# Altium schematic symbol library Cap.SchLib: 186 symbols
Pins are listed as number, name and electrical type; pins without a type are passive.

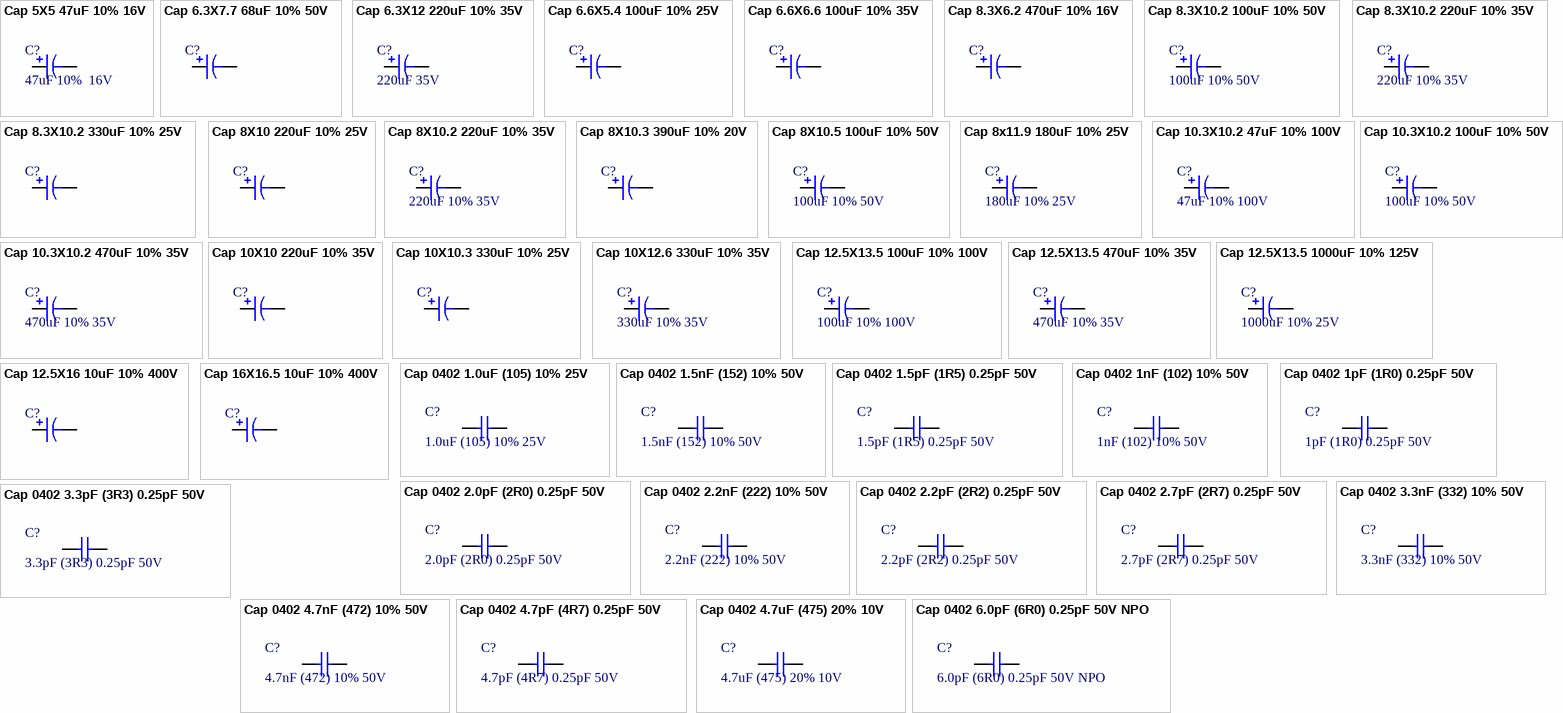
[diagram p0: symbols Cap 5X5 47uF 10% 16V to Cap 0402 6.0pF (6R0) 0.25pF 50V NPO]

## Cap 5X5 47uF 10% 16V
designator C?, comment 47uF 10%  16V
贴片电解电容
footprint CAP SMT 5X5
pins: 1, 2

## Cap 6.3X7.7 68uF 10% 50V
designator C?
贴片电解电容
footprint CAP SMT6.3X7.7
pins: 1, 2

## Cap 6.3X12 220uF 10% 35V
designator C?, comment 220uF 35V
直插固态电解电容
footprint CAP STR 6.3x12 (6.5mm(Dia.) x 12mm(Length) 2.5mm(Lead Spacing))
pins: 1, 2

## Cap 6.6X5.4 100uF 10% 25V
designator C?
贴片电解电容
footprint CAP SMT 6.6X5.4 (Capacitor, Aluminium Electrolytric, 6.6mm L X 6.6mm W X 5.4mm H, IPC Medium Density)
pins: 1, 2

## Cap 6.6X6.6 100uF 10% 35V
designator C?
贴片电解电容
footprint CAP SMT 6.6X6.6 (SMDC)
pins: 1, 2

## Cap 8.3X6.2 470uF 10% 16V
designator C?
贴片电解电容
footprint CAP SMT 8.3X6.2 (Capacitor, Aluminium Electrolytric, 8.3mm L X 8.3mm W X 6.2mm H, IPC Medium Density)
pins: 1, 2

## Cap 8.3X10.2 100uF 10% 50V
designator C?, comment 100uF 10% 50V
贴片电解电容
footprint CAP SMT 8.3X10.2 (Capacitor, Aluminium Electrolytric, 8.3mm L X 8.3mm W X 10.2mm H, IPC Medium Density)
pins: 1, 2

## Cap 8.3X10.2 220uF 10% 35V
designator C?, comment 220uF 10% 35V
贴片电解电容
footprint CAP SMT 8.3X10.2 (Capacitor, Aluminium Electrolytric, 8.3mm L X 8.3mm W X 10.2mm H, IPC Medium Density)
pins: 1, 2

## Cap 8.3X10.2 330uF 10% 25V
designator C?
贴片电解电容
footprint CAP SMT 8.3X10.2 (Capacitor, Aluminium Electrolytric, 8.3mm L X 8.3mm W X 10.2mm H, IPC Medium Density)
pins: 1, 2

## Cap 8X10 220uF 10% 25V
designator C?
贴片电解电容
footprint CAP SMT 8X10
pins: 1, 2

## Cap 8X10.2 220uF 10% 35V
designator C?, comment 220uF 10% 35V
贴片电解电容
footprint CAP SMT 8X10.5
pins: 1, 2

## Cap 8X10.3 390uF 10% 20V
designator C?
贴片电解电容
footprint CAP SMT 8X10.3
pins: 1, 2

## Cap 8X10.5 100uF 10% 50V
designator C?, comment 100uF 10% 50V
贴片电解电容
footprint CAP SMT 8X10.5
pins: 1, 2

## Cap 8x11.9 180uF 10% 25V
designator C?, comment 180uF 10% 25V
贴片电解电容
footprint CAP SMT 8X10.5
pins: 1, 2

## Cap 10.3X10.2 47uF 10% 100V
designator C?, comment 47uF 10% 100V
贴片电解电容
footprint CAP SMT 10.3X10.2 (Capacitor, Aluminium Electrolytric, 10.3mm L X 10.3mm W X 10.2mm H, IPC Medium Density)
pins: 1, 2

## Cap 10.3X10.2 100uF 10% 50V
designator C?, comment 100uF 10% 50V
贴片电解电容
footprint CAP SMT 10.3X10.2 (Capacitor, Aluminium Electrolytric, 10.3mm L X 10.3mm W X 10.2mm H, IPC Medium Density)
pins: 1, 2

## Cap 10.3X10.2 470uF 10% 35V
designator C?, comment 470uF 10% 35V
贴片电解电容
footprint CAP SMT 10.3X10.2 (Capacitor, Aluminium Electrolytric, 10.3mm L X 10.3mm W X 10.2mm H, IPC Medium Density)
pins: 1, 2

## Cap 10X10 220uF 10% 35V
designator C?
贴片电解电容
footprint CAP SMT 10X10
pins: 1, 2

## Cap 10X10.3 330uF 10% 25V
designator C?
贴片电解电容
footprint CAP SMT 10X10.3
pins: 1, 2

## Cap 10X12.6 330uF 10% 35V
designator C?, comment 330uF 10% 35V
贴片固态电解电容
footprint CAP SMT 10X12.6
pins: 1, 2

## Cap 12.5X13.5 100uF 10% 100V
designator C?, comment 100uF 10% 100V
贴片电解电容
footprint CAP SMT 12.5X13.5
pins: 1, 2

## Cap 12.5X13.5 470uF 10% 35V
designator C?, comment 470uF 10% 35V
贴片电解电容
footprint CAP SMT 12.5X13.5
pins: 1, 2

## Cap 12.5X13.5 1000uF 10% 125V
designator C?, comment 1000uF 10% 25V
贴片电解电容
footprint CAP SMT 12.5X13.5
pins: 1, 2

## Cap 12.5X16 10uF 10% 400V
designator C?
贴片电解电容
footprint CAP SMT 12.5X16
pins: 1, 2

## Cap 16X16.5 10uF 10% 400V
designator C?
贴片电解电容
footprint CAP SMT 16X16.5
pins: 1, 2

## Cap 0402 1.0uF (105) 10% 25V
designator C?, comment 1.0uF (105) 10% 25V
贴片电容; ComponentLink1Description: 供应商链接; ComponentLink1URL: http://www.szlcsc.com/product/details_53938.html; Package: 0402; Supplier: LC; SuppliersPartNumber: C52923
footprint 0402_C
pins: 1, 2

## Cap 0402 1.5nF (152) 10% 50V
designator C?, comment 1.5nF (152) 10% 50V
贴片电容; ComponentLink1Description: 供应商链接; ComponentLink1URL: http://www.szlcsc.com/product/details_24707.html; Package: 0402; Supplier: LC; SuppliersPartNumber: C23967
footprint 0402_C
pins: 1, 2

## Cap 0402 1.5pF (1R5) 0.25pF 50V
designator C?, comment 1.5pF (1R5) 0.25pF 50V
贴片电容; ComponentLink1Description: 供应商链接; ComponentLink1URL: http://www.szlcsc.com/product/details_1904.html; Package: 0402; Supplier: LC; SuppliersPartNumber: C1552
footprint 0402_C
pins: 1, 2

## Cap 0402 1nF (102) 10% 50V
designator C?, comment 1nF (102) 10% 50V
贴片电容; ComponentLink1Description: 供应商链接; ComponentLink1URL: http://www.szlcsc.com/product/details_1875.html; Package: 0402; Supplier: LC; SuppliersPartNumber: C1523
footprint 0402_C
pins: 1, 2

## Cap 0402 1pF (1R0) 0.25pF 50V
designator C?, comment 1pF (1R0) 0.25pF 50V
贴片电容; ComponentLink1Description: 供应商链接; ComponentLink1URL: http://www.szlcsc.com/product/details_1902.html; Package: 0402; Supplier: LC; SuppliersPartNumber: C1550
footprint 0402_C
pins: 1, 2

## Cap 0402 2.0pF (2R0) 0.25pF 50V
designator C?, comment 2.0pF (2R0) 0.25pF 50V
贴片电容; ComponentLink1Description: 供应商链接; ComponentLink1URL: http://www.szlcsc.com/product/details_1910.html; Package: 0402; Supplier: LC; SuppliersPartNumber: C1558
footprint 0402_C
pins: 1, 2

## Cap 0402 2.2nF (222) 10% 50V
designator C?, comment 2.2nF (222) 10% 50V
贴片电容; ComponentLink1Description: 供应商链接; ComponentLink1URL: http://www.szlcsc.com/product/details_1883.html; Package: 0402; Supplier: LC; SuppliersPartNumber: C1531
footprint 0402_C
pins: 1, 2

## Cap 0402 2.2pF (2R2) 0.25pF 50V
designator C?, comment 2.2pF (2R2) 0.25pF 50V
贴片电容; ComponentLink1Description: 供应商链接; ComponentLink1URL: http://www.szlcsc.com/product/details_1911.html; Package: 0402; Supplier: LC; SuppliersPartNumber: C1559
footprint 0402_C
pins: 1, 2

## Cap 0402 2.7pF (2R7) 0.25pF 50V
designator C?, comment 2.7pF (2R7) 0.25pF 50V
贴片电容; ComponentLink1Description: 供应商链接; ComponentLink1URL: http://www.szlcsc.com/product/details_1913.html; Package: 0402; Supplier: LC; SuppliersPartNumber: C1561
footprint 0402_C
pins: 1, 2

## Cap 0402 3.3nF (332) 10% 50V
designator C?, comment 3.3nF (332) 10% 50V
贴片电容; ComponentLink1Description: 供应商链接; ComponentLink1URL: http://www.szlcsc.com/product/details_27148.html; Package: 0402; Supplier: LC; SuppliersPartNumber: C26404
footprint 0402_C
pins: 1, 2

## Cap 0402 3.3pF (3R3) 0.25pF 50V
designator C?, comment 3.3pF (3R3) 0.25pF 50V
贴片电容; ComponentLink1Description: 供应商链接; ComponentLink1URL: http://www.szlcsc.com/product/details_1917.html; Package: 0402; Supplier: LC; SuppliersPartNumber: C1565
footprint 0402_C
pins: 1, 2

## Cap 0402 4.7nF (472) 10% 50V
designator C?, comment 4.7nF (472) 10% 50V
贴片电容; ComponentLink1Description: 供应商链接; ComponentLink1URL: http://www.szlcsc.com/product/details_1890.html; Package: 0402; Supplier: LC; SuppliersPartNumber: C1538
footprint 0402_C
pins: 1, 2

## Cap 0402 4.7pF (4R7) 0.25pF 50V
designator C?, comment 4.7pF (4R7) 0.25pF 50V
贴片电容; ComponentLink1Description: 供应商链接; ComponentLink1URL: http://www.szlcsc.com/product/details_1921.html; Package: 0402; Supplier: LC; SuppliersPartNumber: C1569
footprint 0402_C
pins: 1, 2

## Cap 0402 4.7uF (475) 20% 10V
designator C?, comment 4.7uF (475) 20% 10V
贴片电容; ComponentLink1Description: 供应商链接; ComponentLink1URL: http://www.szlcsc.com/product/details_24469.html; Package: 0402; Supplier: LC; SuppliersPartNumber: C23733
footprint 0402_C
pins: 1, 2

## Cap 0402 6.0pF (6R0) 0.25pF 50V NPO
designator C?, comment 6.0pF (6R0) 0.25pF 50V NPO
贴片电容; ComponentLink1Description: 供应商链接; ComponentLink1URL: http://www.szlcsc.com/product/details_31031.html; Package: 0402; Supplier: LC; SuppliersPartNumber: C30274
footprint 0402_C
pins: 1, 2

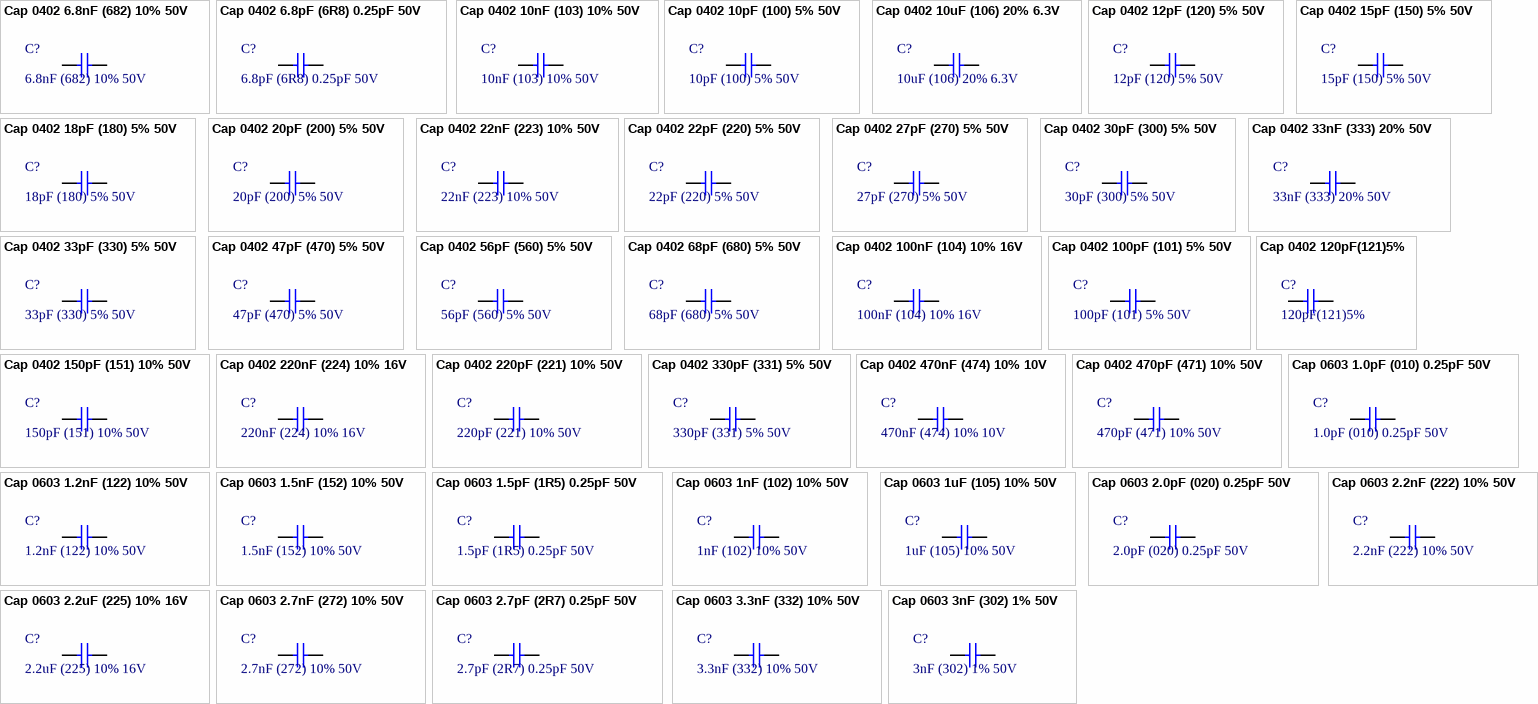
[diagram p1: symbols Cap 0402 6.8nF (682) 10% 50V to Cap 0603 3nF (302) 1% 50V]

## Cap 0402 6.8nF (682) 10% 50V
designator C?, comment 6.8nF (682) 10% 50V
贴片电容; ComponentLink1Description: 供应商链接; ComponentLink1URL: http://www.szlcsc.com/product/details_1894.html; Package: 0402; Supplier: LC; SuppliersPartNumber: C1542
footprint 0402_C
pins: 1, 2

## Cap 0402 6.8pF (6R8) 0.25pF 50V
designator C?, comment 6.8pF (6R8) 0.25pF 50V
贴片电容; ComponentLink1Description: 供应商链接; ComponentLink1URL: http://www.szlcsc.com/product/details_1928.html; Package: 0402; Supplier: LC; SuppliersPartNumber: C1576
footprint 0402_C
pins: 1, 2

## Cap 0402 10nF (103) 10% 50V
designator C?, comment 10nF (103) 10% 50V
贴片电容; ComponentLink1Description: 供应商链接; ComponentLink1URL: http://www.szlcsc.com/product/details_15869.html; Package: 0402; Supplier: LC; SuppliersPartNumber: C15195
footprint 0402_C
pins: 1, 2

## Cap 0402 10pF (100) 5% 50V
designator C?, comment 10pF (100) 5% 50V
贴片电容; ComponentLink1Description: 供应商链接; ComponentLink1URL: http://www.szlcsc.com/product/details_33914.html; Package: 0402; Supplier: LC; SuppliersPartNumber: C32949
footprint 0402_C
pins: 1, 2

## Cap 0402 10uF (106) 20% 6.3V
designator C?, comment 10uF (106) 20% 6.3V
贴片电容; ComponentLink1Description: 供应商链接; ComponentLink1URL: http://www.szlcsc.com/product/details_16204.html; Package: 0402; Supplier: LC; SuppliersPartNumber: C15525
footprint 0402_C
pins: 1, 2

## Cap 0402 12pF (120) 5% 50V
designator C?, comment 12pF (120) 5% 50V
贴片电容; ComponentLink1Description: 供应商链接; ComponentLink1URL: http://www.szlcsc.com/product/details_1899.html; Package: 0402; Supplier: LC; SuppliersPartNumber: C1547
footprint 0402_C
pins: 1, 2

## Cap 0402 15pF (150) 5% 50V
designator C?, comment 15pF (150) 5% 50V
贴片电容; ComponentLink1Description: 供应商链接; ComponentLink1URL: http://www.szlcsc.com/product/details_1900.html; Package: 0402; Supplier: LC; SuppliersPartNumber: C1548
footprint 0402_C
pins: 1, 2

## Cap 0402 18pF (180) 5% 50V
designator C?, comment 18pF (180) 5% 50V
贴片电容; ComponentLink1Description: 供应商链接; ComponentLink1URL: http://www.szlcsc.com/product/details_1901.html; Package: 0402; Supplier: LC; SuppliersPartNumber: C1549
footprint 0402_C
pins: 1, 2

## Cap 0402 20pF (200) 5% 50V
designator C?, comment 20pF (200) 5% 50V
贴片电容; ComponentLink1Description: 供应商链接; ComponentLink1URL: http://www.szlcsc.com/product/details_1906.html; Package: 0402; Supplier: LC; SuppliersPartNumber: C1554
footprint 0402_C
pins: 1, 2

## Cap 0402 22nF (223) 10% 50V
designator C?, comment 22nF (223) 10% 50V
贴片电容; ComponentLink1Description: 供应商链接; ComponentLink1URL: http://www.szlcsc.com/product/details_1884.html; Package: 0402; Supplier: LC; SuppliersPartNumber: C1532
footprint 0402_C
pins: 1, 2

## Cap 0402 22pF (220) 5% 50V
designator C?, comment 22pF (220) 5% 50V
贴片电容; ComponentLink1Description: 供应商链接; ComponentLink1URL: http://www.szlcsc.com/product/details_1907.html; Package: 0402; Supplier: LC; SuppliersPartNumber: C1555
footprint 0402_C
pins: 1, 2

## Cap 0402 27pF (270) 5% 50V
designator C?, comment 27pF (270) 5% 50V
贴片电容; ComponentLink1Description: 供应商链接; ComponentLink1URL: http://www.szlcsc.com/product/details_1909.html; Package: 0402; Supplier: LC; SuppliersPartNumber: C1557
footprint 0402_C
pins: 1, 2

## Cap 0402 30pF (300) 5% 50V
designator C?, comment 30pF (300) 5% 50V
贴片电容; ComponentLink1Description: 供应商链接; ComponentLink1URL: http://www.szlcsc.com/product/details_1922.html; Package: 0402; Supplier: LC; SuppliersPartNumber: C1570
footprint 0402_C
pins: 1, 2

## Cap 0402 33nF (333) 20% 50V
designator C?, comment 33nF (333) 20% 50V
贴片电容; ComponentLink1Description: 供应商链接; ComponentLink1URL: http://www.szlcsc.com/product/details_1937.html; Package: 0402; Supplier: LC; SuppliersPartNumber: C1585
footprint 0402_C
pins: 1, 2

## Cap 0402 33pF (330) 5% 50V
designator C?, comment 33pF (330) 5% 50V
贴片电容; ComponentLink1Description: 供应商链接; ComponentLink1URL: http://www.szlcsc.com/product/details_1914.html; Package: 0402; Supplier: LC; SuppliersPartNumber: C1562
footprint 0402_C
pins: 1, 2

## Cap 0402 47pF (470) 5% 50V
designator C?, comment 47pF (470) 5% 50V
贴片电容; ComponentLink1Description: 供应商链接; ComponentLink1URL: http://www.szlcsc.com/product/details_1919.html; Package: 0402; Supplier: LC; SuppliersPartNumber: C1567
footprint 0402_C
pins: 1, 2

## Cap 0402 56pF (560) 5% 50V
designator C?, comment 56pF (560) 5% 50V
贴片电容; ComponentLink1Description: 供应商链接; ComponentLink1URL: http://www.szlcsc.com/product/details_1924.html; Package: 0402; Supplier: LC; SuppliersPartNumber: C1572
footprint 0402_C
pins: 1, 2

## Cap 0402 68pF (680) 5% 50V
designator C?, comment 68pF (680) 5% 50V
贴片电容; ComponentLink1Description: 供应商链接; ComponentLink1URL: http://www.szlcsc.com/product/details_15103.html; Package: 0402; Supplier: LC; SuppliersPartNumber: C14441
footprint 0402_C
pins: 1, 2

## Cap 0402 100nF (104) 10% 16V
designator C?, comment 100nF (104) 10% 16V
贴片电容; ComponentLink1Description: 供应商链接; ComponentLink1URL: http://www.szlcsc.com/product/details_1877.html; Package: 0402; Supplier: LC; SuppliersPartNumber: C1525
footprint 0402_C
pins: 1, 2

## Cap 0402 100pF (101) 5% 50V
designator C?, comment 100pF (101) 5% 50V
贴片电容; ComponentLink1Description: 供应商链接; ComponentLink1URL: http://www.szlcsc.com/product/details_1898.html; Package: 0402; Supplier: LC; SuppliersPartNumber: C1546
footprint 0402_C
pins: 1, 2

## Cap 0402 120pF(121)5%
designator C?, comment 120pF(121)5%
贴片电容
footprint 0402_C
pins: 1, 2

## Cap 0402 150pF (151) 10% 50V
designator C?, comment 150pF (151) 10% 50V
贴片电容; ComponentLink1Description: 供应商链接; ComponentLink1URL: http://www.szlcsc.com/product/details_1879.html; Package: 0402; Supplier: LC; SuppliersPartNumber: C1527
footprint 0402_C
pins: 1, 2

## Cap 0402 220nF (224) 10% 16V
designator C?, comment 220nF (224) 10% 16V
贴片电容; ComponentLink1Description: 供应商链接; ComponentLink1URL: http://www.szlcsc.com/product/details_17456.html; Package: 0402; Supplier: LC; SuppliersPartNumber: C16772
footprint 0402_C
pins: 1, 2

## Cap 0402 220pF (221) 10% 50V
designator C?, comment 220pF (221) 10% 50V
贴片电容; ComponentLink1Description: 供应商链接; ComponentLink1URL: http://www.szlcsc.com/product/details_1882.html; Package: 0402; Supplier: LC; SuppliersPartNumber: C1530
footprint 0402_C
pins: 1, 2

## Cap 0402 330pF (331) 5% 50V
designator C?, comment 330pF (331) 5% 50V
贴片电容; ComponentLink1Description: 供应商链接; ComponentLink1URL: http://www.szlcsc.com/product/details_14182.html; Package: 0402; Supplier: LC; SuppliersPartNumber: C13533
footprint 0402_C
pins: 1, 2

## Cap 0402 470nF (474) 10% 10V
designator C?, comment 470nF (474) 10% 10V
贴片电容; ComponentLink1Description: 供应商链接; ComponentLink1URL: http://www.szlcsc.com/product/details_48344.html; Package: 0402; Supplier: LC; SuppliersPartNumber: C47339
footprint 0402_C
pins: 1, 2

## Cap 0402 470pF (471) 10% 50V
designator C?, comment 470pF (471) 10% 50V
贴片电容; ComponentLink1Description: 供应商链接; ComponentLink1URL: http://www.szlcsc.com/product/details_1889.html; Package: 0402; Supplier: LC; SuppliersPartNumber: C1537
footprint 0402_C
pins: 1, 2

## Cap 0603 1.0pF (010) 0.25pF 50V
designator C?, comment 1.0pF (010) 0.25pF 50V
贴片电容; ComponentLink1Description: 供应商链接; ComponentLink1URL: http://www.szlcsc.com/product/details_24709.html; Package: 0603; Supplier: LC; SuppliersPartNumber: C23969
footprint 0603_C
pins: 1, 2

## Cap 0603 1.2nF (122) 10% 50V
designator C?, comment 1.2nF (122) 10% 50V
贴片电容; ComponentLink1Description: 供应商链接; ComponentLink1URL: http://www.szlcsc.com/product/details_31372.html; Package: 0603; Supplier: LC; SuppliersPartNumber: C30615
footprint 0603_C
pins: 1, 2

## Cap 0603 1.5nF (152) 10% 50V
designator C?, comment 1.5nF (152) 10% 50V
贴片电容; ComponentLink1Description: 供应商链接; ComponentLink1URL: http://www.szlcsc.com/product/details_1947.html; Package: 0603; Supplier: LC; SuppliersPartNumber: C1595
footprint 0603_C
pins: 1, 2

## Cap 0603 1.5pF (1R5) 0.25pF 50V
designator C?, comment 1.5pF (1R5) 0.25pF 50V
贴片电容; ComponentLink1Description: 供应商链接; ComponentLink1URL: http://www.szlcsc.com/product/details_1991.html; Package: 0603; Supplier: LC; SuppliersPartNumber: C1639
footprint 0603_C
pins: 1, 2

## Cap 0603 1nF (102) 10% 50V
designator C?, comment 1nF (102) 10% 50V
贴片电容; ComponentLink1Description: 供应商链接; ComponentLink1URL: http://www.szlcsc.com/product/details_1940.html; Package: 0603; Supplier: LC; SuppliersPartNumber: C1588
footprint 0603_C
pins: 1, 2

## Cap 0603 1uF (105) 10% 50V
designator C?, comment 1uF (105) 10% 50V
贴片电容; ComponentLink1Description: 供应商链接; ComponentLink1URL: http://www.szlcsc.com/product/details_16531.html; Package: 0603; Supplier: LC; SuppliersPartNumber: C15849
footprint 0603_C
pins: 1, 2

## Cap 0603 2.0pF (020) 0.25pF 50V
designator C?, comment 2.0pF (020) 0.25pF 50V
贴片电容; ComponentLink1Description: 供应商链接; ComponentLink1URL: http://www.szlcsc.com/product/details_22617.html; Package: 0603; Supplier: LC; SuppliersPartNumber: C21895
footprint 0603_C
pins: 1, 2

## Cap 0603 2.2nF (222) 10% 50V
designator C?, comment 2.2nF (222) 10% 50V
贴片电容; ComponentLink1Description: 供应商链接; ComponentLink1URL: http://www.szlcsc.com/product/details_1956.html; Package: 0603; Supplier: LC; SuppliersPartNumber: C1604
footprint 0603_C
pins: 1, 2

## Cap 0603 2.2uF (225) 10% 16V
designator C?, comment 2.2uF (225) 10% 16V
贴片电容; ComponentLink1Description: 供应商链接; ComponentLink1URL: http://www.szlcsc.com/product/details_24366.html; Package: 0603; Supplier: LC; SuppliersPartNumber: C23630
footprint 0603_C
pins: 1, 2

## Cap 0603 2.7nF (272) 10% 50V
designator C?, comment 2.7nF (272) 10% 50V
贴片电容; ComponentLink1Description: 供应商链接; ComponentLink1URL: http://www.szlcsc.com/product/details_1961.html; Package: 0603; Supplier: LC; SuppliersPartNumber: C1609
footprint 0603_C
pins: 1, 2

## Cap 0603 2.7pF (2R7) 0.25pF 50V
designator C?, comment 2.7pF (2R7) 0.25pF 50V
贴片电容; ComponentLink1Description: 供应商链接; ComponentLink1URL: http://www.szlcsc.com/product/details_16831.html; Package: 0603; Supplier: LC; SuppliersPartNumber: C16149
footprint 0603_C
pins: 1, 2

## Cap 0603 3.3nF (332) 10% 50V
designator C?, comment 3.3nF (332) 10% 50V
贴片电容; ComponentLink1Description: 供应商链接; ComponentLink1URL: http://www.szlcsc.com/product/details_1965.html; Package: 0603; Supplier: LC; SuppliersPartNumber: C1613
footprint 0603_C
pins: 1, 2

## Cap 0603 3nF (302) 1% 50V
designator C?, comment 3nF (302) 1% 50V
贴片电容; ComponentLink1Description: 供应商链接; ComponentLink1URL: http://www.szlcsc.com/product/details_47222.html; Package: 0603; Supplier: LC; SuppliersPartNumber: C46219
footprint 0603_C
pins: 1, 2

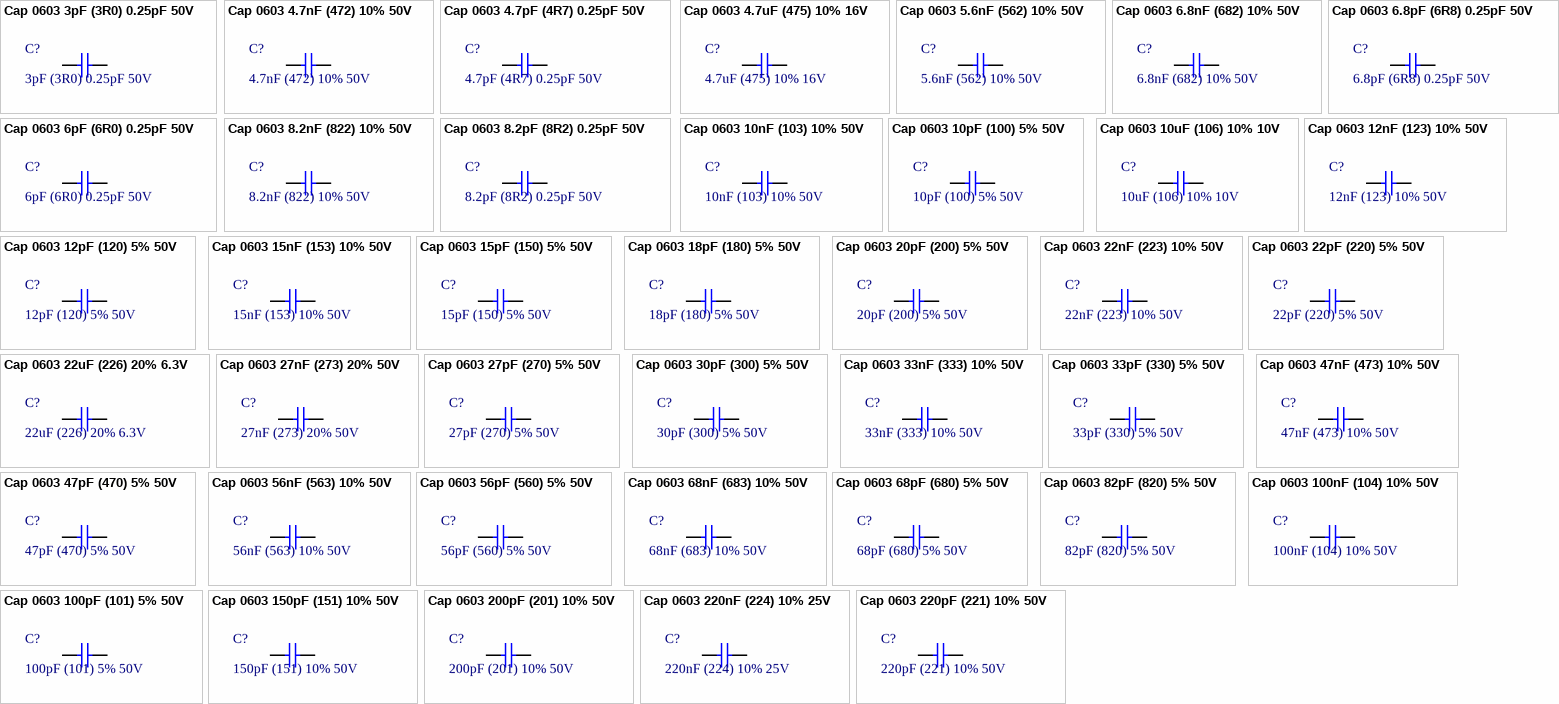
[diagram p2: symbols Cap 0603 3pF (3R0) 0.25pF 50V to Cap 0603 220pF (221) 10% 50V]

## Cap 0603 3pF (3R0) 0.25pF 50V
designator C?, comment 3pF (3R0) 0.25pF 50V
贴片电容; ComponentLink1Description: 供应商链接; ComponentLink1URL: http://www.szlcsc.com/product/details_47222.html; Package: 0603; Supplier: LC; SuppliersPartNumber: C46219
footprint 0603_C
pins: 1, 2

## Cap 0603 4.7nF (472) 10% 50V
designator C?, comment 4.7nF (472) 10% 50V
贴片电容; ComponentLink1Description: 供应商链接; ComponentLink1URL: http://www.szlcsc.com/product/details_55004.html; Package: 0603; Supplier: LC; SuppliersPartNumber: C53987
footprint 0603_C
pins: 1, 2

## Cap 0603 4.7pF (4R7) 0.25pF 50V
designator C?, comment 4.7pF (4R7) 0.25pF 50V
贴片电容; ComponentLink1Description: 供应商链接; ComponentLink1URL: http://www.szlcsc.com/product/details_2021.html; Package: 0603; Supplier: LC; SuppliersPartNumber: C1669
footprint 0603_C
pins: 1, 2

## Cap 0603 4.7uF (475) 10% 16V
designator C?, comment 4.7uF (475) 10% 16V
贴片电容; ComponentLink1Description: 供应商链接; ComponentLink1URL: http://www.szlcsc.com/product/details_20375.html; Package: 0603; Supplier: LC; SuppliersPartNumber: C19666
footprint 0603_C
pins: 1, 2

## Cap 0603 5.6nF (562) 10% 50V
designator C?, comment 5.6nF (562) 10% 50V
贴片电容; ComponentLink1Description: 供应商链接; ComponentLink1URL: http://www.szlcsc.com/product/details_55004.html; Package: 0603; Supplier: LC; SuppliersPartNumber: C53987
footprint 0603_C
pins: 1, 2

## Cap 0603 6.8nF (682) 10% 50V
designator C?, comment 6.8nF (682) 10% 50V
贴片电容; ComponentLink1Description: 供应商链接; ComponentLink1URL: http://www.szlcsc.com/product/details_1983.html; Package: 0603; Supplier: LC; SuppliersPartNumber: C1631
footprint 0603_C
pins: 1, 2

## Cap 0603 6.8pF (6R8) 0.25pF 50V
designator C?, comment 6.8pF (6R8) 0.25pF 50V
贴片电容; ComponentLink1Description: 供应商链接; ComponentLink1URL: http://www.szlcsc.com/product/details_2031.html; Package: 0603; Supplier: LC; SuppliersPartNumber: C1679
footprint 0603_C
pins: 1, 2

## Cap 0603 6pF (6R0) 0.25pF 50V
designator C?, comment 6pF (6R0) 0.25pF 50V
贴片电容; ComponentLink1Description: 供应商链接; ComponentLink1URL: http://www.szlcsc.com/product/details_38453.html; Package: 0603; Supplier: LC; SuppliersPartNumber: C37474
footprint 0603_C
pins: 1, 2

## Cap 0603 8.2nF (822) 10% 50V
designator C?, comment 8.2nF (822) 10% 50V
贴片电容; ComponentLink1Description: 供应商链接; ComponentLink1URL: http://www.szlcsc.com/product/details_28670.html; Package: 0603; Supplier: LC; SuppliersPartNumber: C27920
footprint 0603_C
pins: 1, 2

## Cap 0603 8.2pF (8R2) 0.25pF 50V
designator C?, comment 8.2pF (8R2) 0.25pF 50V
贴片电容; ComponentLink1Description: 供应商链接; ComponentLink1URL: http://www.szlcsc.com/product/details_2037.html; Package: 0603; Supplier: LC; SuppliersPartNumber: C1685
footprint 0603_C
pins: 1, 2

## Cap 0603 10nF (103) 10% 50V
designator C?, comment 10nF (103) 10% 50V
贴片电容; ComponentLink1Description: 供应商链接; ComponentLink1URL: http://www.szlcsc.com/product/details_58143.html; Package: 0603; Supplier: LC; SuppliersPartNumber: C57112
footprint 0603_C
pins: 1, 2

## Cap 0603 10pF (100) 5% 50V
designator C?, comment 10pF (100) 5% 50V
贴片电容; ComponentLink1Description: 供应商链接; ComponentLink1URL: http://www.szlcsc.com/product/details_1986.html; Package: 0603; Supplier: LC; SuppliersPartNumber: C1634
footprint 0603_C
pins: 1, 2

## Cap 0603 10uF (106) 10% 10V
designator C?, comment 10uF (106) 10% 10V
贴片电容; ComponentLink1Description: 供应商链接; ComponentLink1URL: http://www.szlcsc.com/product/details_20411.html; Package: 0603; Supplier: LC; SuppliersPartNumber: C19702
footprint 0603_C
pins: 1, 2

## Cap 0603 12nF (123) 10% 50V
designator C?, comment 12nF (123) 10% 50V
贴片电容; ComponentLink1Description: 供应商链接; ComponentLink1URL: http://www.szlcsc.com/product/details_1945.html; Package: 0603; Supplier: LC; SuppliersPartNumber: C1593
footprint 0603_C
pins: 1, 2

## Cap 0603 12pF (120) 5% 50V
designator C?, comment 12pF (120) 5% 50V
贴片电容; ComponentLink1Description: 供应商链接; ComponentLink1URL: http://www.szlcsc.com/product/details_39506.html; Package: 0603; Supplier: LC; SuppliersPartNumber: C38523
footprint 0603_C
pins: 1, 2

## Cap 0603 15nF (153) 10% 50V
designator C?, comment 15nF (153) 10% 50V
贴片电容; ComponentLink1Description: 供应商链接; ComponentLink1URL: http://www.szlcsc.com/product/details_1948.html; Package: 0603; Supplier: LC; SuppliersPartNumber: C1596
footprint 0603_C
pins: 1, 2

## Cap 0603 15pF (150) 5% 50V
designator C?, comment 15pF (150) 5% 50V
贴片电容; ComponentLink1Description: 供应商链接; ComponentLink1URL: http://www.szlcsc.com/product/details_1996.html; Package: 0603; Supplier: LC; SuppliersPartNumber: C1644
footprint 0603_C
pins: 1, 2

## Cap 0603 18pF (180) 5% 50V
designator C?, comment 18pF (180) 5% 50V
贴片电容; ComponentLink1Description: 供应商链接; ComponentLink1URL: http://www.szlcsc.com/product/details_1999.html; Package: 0603; Supplier: LC; SuppliersPartNumber: C1647
footprint 0603_C
pins: 1, 2

## Cap 0603 20pF (200) 5% 50V
designator C?, comment 20pF (200) 5% 50V
贴片电容; ComponentLink1Description: 供应商链接; ComponentLink1URL: http://www.szlcsc.com/product/details_2000.html; Package: 0603; Supplier: LC; SuppliersPartNumber: C1648
footprint 0603_C
pins: 1, 2

## Cap 0603 22nF (223) 10% 50V
designator C?, comment 22nF (223) 10% 50V
贴片电容; ComponentLink1Description: 供应商链接; ComponentLink1URL: http://www.szlcsc.com/product/details_21834.html; Package: 0603; Supplier: LC; SuppliersPartNumber: C21122
footprint 0603_C
pins: 1, 2

## Cap 0603 22pF (220) 5% 50V
designator C?, comment 22pF (220) 5% 50V
贴片电容; ComponentLink1Description: 供应商链接; ComponentLink1URL: http://www.szlcsc.com/product/details_2005.html; Package: 0603; Supplier: LC; SuppliersPartNumber: C1653
footprint 0603_C
pins: 1, 2

## Cap 0603 22uF (226) 20% 6.3V
designator C?, comment 22uF (226) 20% 6.3V
贴片电容; ComponentLink1Description: 供应商链接; ComponentLink1URL: http://www.szlcsc.com/product/details_60514.html; Package: 0603; Supplier: LC; SuppliersPartNumber: C59461
footprint 0603_C
pins: 1, 2

## Cap 0603 27nF (273) 20% 50V
designator C?, comment 27nF (273) 20% 50V
贴片电容; ComponentLink1Description: 供应商链接; ComponentLink1URL: http://www.szlcsc.com/product/details_2052.html; Package: 0603; Supplier: LC; SuppliersPartNumber: C1700
footprint 0603_C
pins: 1, 2

## Cap 0603 27pF (270) 5% 50V
designator C?, comment 27pF (270) 5% 50V
贴片电容; ComponentLink1Description: 供应商链接; ComponentLink1URL: http://www.szlcsc.com/product/details_2008.html; Package: 0603; Supplier: LC; SuppliersPartNumber: C1656
footprint 0603_C
pins: 1, 2

## Cap 0603 30pF (300) 5% 50V
designator C?, comment 30pF (300) 5% 50V
贴片电容; ComponentLink1Description: 供应商链接; ComponentLink1URL: http://www.szlcsc.com/product/details_23122.html; Package: 0603; Supplier: LC; SuppliersPartNumber: C22397
footprint 0603_C
pins: 1, 2

## Cap 0603 33nF (333) 10% 50V
designator C?, comment 33nF (333) 10% 50V
贴片电容; ComponentLink1Description: 供应商链接; ComponentLink1URL: http://www.szlcsc.com/product/details_21829.html; Package: 0603; Supplier: LC; SuppliersPartNumber: C21117
footprint 0603_C
pins: 1, 2

## Cap 0603 33pF (330) 5% 50V
designator C?, comment 33pF (330) 5% 50V
贴片电容; ComponentLink1Description: 供应商链接; ComponentLink1URL: http://www.szlcsc.com/product/details_2015.html; Package: 0603; Supplier: LC; SuppliersPartNumber: C1663
footprint 0603_C
pins: 1, 2

## Cap 0603 47nF (473) 10% 50V
designator C?, comment 47nF (473) 10% 50V
贴片电容; ComponentLink1Description: 供应商链接; ComponentLink1URL: http://www.szlcsc.com/product/details_1974.html; Package: 0603; Supplier: LC; SuppliersPartNumber: C1622
footprint 0603_C
pins: 1, 2

## Cap 0603 47pF (470) 5% 50V
designator C?, comment 47pF (470) 5% 50V
贴片电容; ComponentLink1Description: 供应商链接; ComponentLink1URL: http://www.szlcsc.com/product/details_2023.html; Package: 0603; Supplier: LC; SuppliersPartNumber: C1671
footprint 0603_C
pins: 1, 2

## Cap 0603 56nF (563) 10% 50V
designator C?, comment 56nF (563) 10% 50V
贴片电容; ComponentLink1Description: 供应商链接; ComponentLink1URL: http://www.szlcsc.com/product/details_1974.html; Package: 0603; Supplier: LC; SuppliersPartNumber: C1622
footprint 0603_C
pins: 1, 2

## Cap 0603 56pF (560) 5% 50V
designator C?, comment 56pF (560) 5% 50V
贴片电容; ComponentLink1Description: 供应商链接; ComponentLink1URL: http://www.szlcsc.com/product/details_40131.html; Package: 0603; Supplier: LC; SuppliersPartNumber: C39148
footprint 0603_C
pins: 1, 2

## Cap 0603 68nF (683) 10% 50V
designator C?, comment 68nF (683) 10% 50V
贴片电容; ComponentLink1Description: 供应商链接; ComponentLink1URL: http://www.szlcsc.com/product/details_32617.html; Package: 0603; Supplier: LC; SuppliersPartNumber: C31658
footprint 0603_C
pins: 1, 2

## Cap 0603 68pF (680) 5% 50V
designator C?, comment 68pF (680) 5% 50V
贴片电容; ComponentLink1Description: 供应商链接; ComponentLink1URL: http://www.szlcsc.com/product/details_29012.html; Package: 0603; Supplier: LC; SuppliersPartNumber: C28262
footprint 0603_C
pins: 1, 2

## Cap 0603 82pF (820) 5% 50V
designator C?, comment 82pF (820) 5% 50V
贴片电容; ComponentLink1Description: 供应商链接; ComponentLink1URL: http://www.szlcsc.com/product/details_2035.html; Package: 0603; Supplier: LC; SuppliersPartNumber: C1683
footprint 0603_C
pins: 1, 2

## Cap 0603 100nF (104) 10% 50V
designator C?, comment 100nF (104) 10% 50V
贴片电容; ComponentLink1Description: 供应商链接; ComponentLink1URL: http://www.szlcsc.com/product/details_15331.html; Package: 0603; Supplier: LC; SuppliersPartNumber: C14663
footprint 0603_C
pins: 1, 2

## Cap 0603 100pF (101) 5% 50V
designator C?, comment 100pF (101) 5% 50V
贴片电容; ComponentLink1Description: 供应商链接; ComponentLink1URL: http://www.szlcsc.com/product/details_15530.html; Package: 0603; Supplier: LC; SuppliersPartNumber: C14858
footprint 0603_C
pins: 1, 2

## Cap 0603 150pF (151) 10% 50V
designator C?, comment 150pF (151) 10% 50V
贴片电容; ComponentLink1Description: 供应商链接; ComponentLink1URL: http://www.szlcsc.com/product/details_1946.html; Package: 0603; Supplier: LC; SuppliersPartNumber: C1594
footprint 0603_C
pins: 1, 2

## Cap 0603 200pF (201) 10% 50V
designator C?, comment 200pF (201) 10% 50V
贴片电容; ComponentLink1Description: 供应商链接; ComponentLink1URL: http://www.szlcsc.com/product/details_1952.html; Package: 0603; Supplier: LC; SuppliersPartNumber: C1600
footprint 0603_C
pins: 1, 2

## Cap 0603 220nF (224) 10% 25V
designator C?, comment 220nF (224) 10% 25V
贴片电容; ComponentLink1Description: 供应商链接; ComponentLink1URL: http://www.szlcsc.com/product/details_21832.html; Package: 0603; Supplier: LC; SuppliersPartNumber: C21120
footprint 0603_C
pins: 1, 2

## Cap 0603 220pF (221) 10% 50V
designator C?, comment 220pF (221) 10% 50V
贴片电容; ComponentLink1Description: 供应商链接; ComponentLink1URL: http://www.szlcsc.com/product/details_1955.html; Package: 0603; Supplier: LC; SuppliersPartNumber: C1603
footprint 0603_C
pins: 1, 2

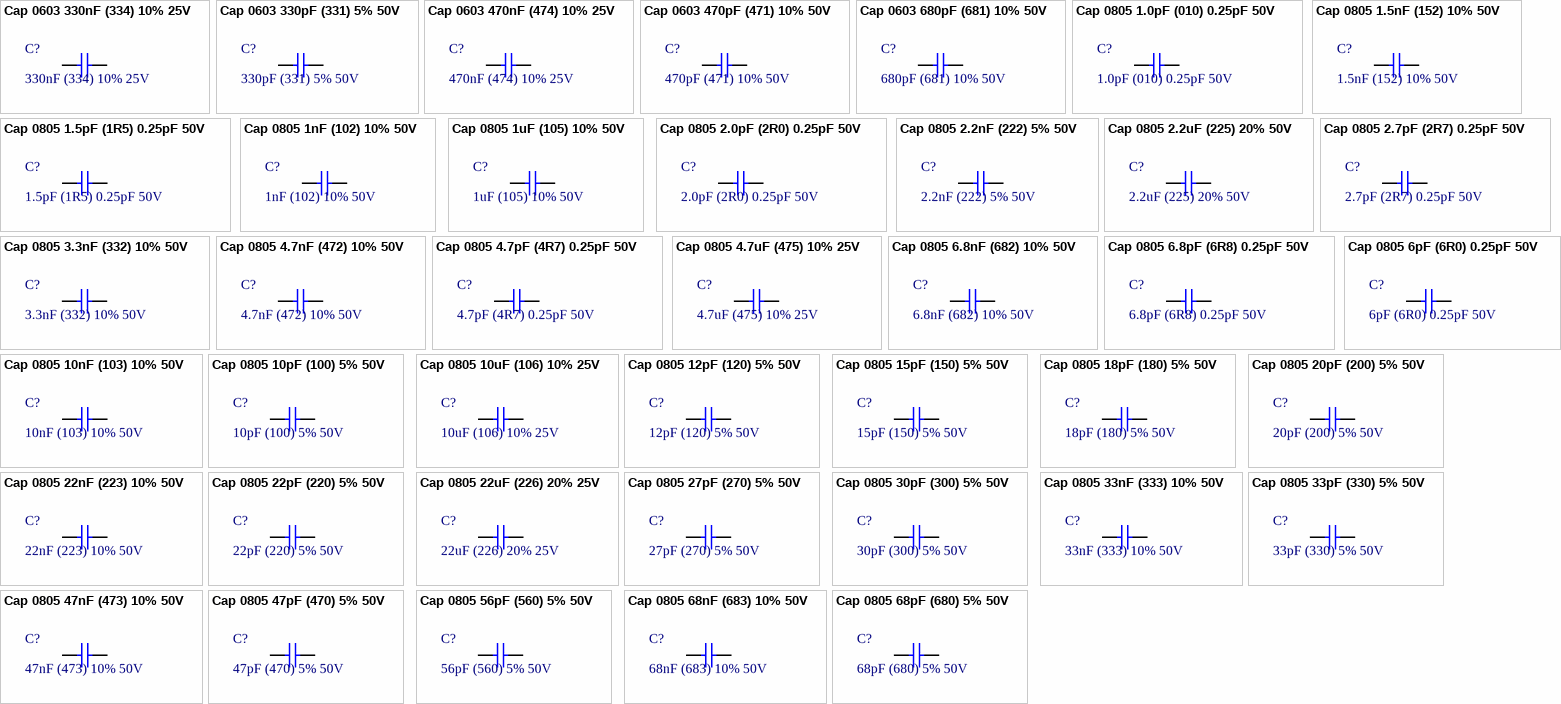
[diagram p3: symbols Cap 0603 330nF (334) 10% 25V to Cap 0805 68pF (680) 5% 50V]

## Cap 0603 330nF (334) 10% 25V
designator C?, comment 330nF (334) 10% 25V
贴片电容; ComponentLink1Description: 供应商链接; ComponentLink1URL: http://www.szlcsc.com/product/details_1967.html; Package: 0603; Supplier: LC; SuppliersPartNumber: C1615
footprint 0603_C
pins: 1, 2

## Cap 0603 330pF (331) 5% 50V
designator C?, comment 330pF (331) 5% 50V
贴片电容; ComponentLink1Description: 供应商链接; ComponentLink1URL: http://www.szlcsc.com/product/details_2016.html; Package: 0603; Supplier: LC; SuppliersPartNumber: C1664
footprint 0603_C
pins: 1, 2

## Cap 0603 470nF (474) 10% 25V
designator C?, comment 470nF (474) 10% 25V
贴片电容; ComponentLink1Description: 供应商链接; ComponentLink1URL: http://www.szlcsc.com/product/details_1975.html; Package: 0603; Supplier: LC; SuppliersPartNumber: C1623
footprint 0603_C
pins: 1, 2

## Cap 0603 470pF (471) 10% 50V
designator C?, comment 470pF (471) 10% 50V
贴片电容; ComponentLink1Description: 供应商链接; ComponentLink1URL: http://www.szlcsc.com/product/details_1972.html; Package: 0603; Supplier: LC; SuppliersPartNumber: C1620
footprint 0603_C
pins: 1, 2

## Cap 0603 680pF (681) 10% 50V
designator C?, comment 680pF (681) 10% 50V
贴片电容; ComponentLink1Description: 供应商链接; ComponentLink1URL: http://www.szlcsc.com/product/details_1982.html; Package: 0603; Supplier: LC; SuppliersPartNumber: C1630
footprint 0603_C
pins: 1, 2

## Cap 0805 1.0pF (010) 0.25pF 50V
designator C?, comment 1.0pF (010) 0.25pF 50V
贴片电容; ComponentLink1Description: 供应商链接; ComponentLink1URL: http://www.szlcsc.com/product/details_15644.html; Package: 0805; Supplier: LC; SuppliersPartNumber: C14971
footprint 0805_C
pins: 1, 2

## Cap 0805 1.5nF (152) 10% 50V
designator C?, comment 1.5nF (152) 10% 50V
贴片电容; ComponentLink1Description: 供应商链接; ComponentLink1URL: http://www.szlcsc.com/product/details_2069.html; Package: 0805; Supplier: LC; SuppliersPartNumber: C1717
footprint 0805_C
pins: 1, 2

## Cap 0805 1.5pF (1R5) 0.25pF 50V
designator C?, comment 1.5pF (1R5) 0.25pF 50V
贴片电容; ComponentLink1Description: 供应商链接; ComponentLink1URL: http://www.szlcsc.com/product/details_2140.html; Package: 0805; Supplier: LC; SuppliersPartNumber: C1788
footprint 0805_C
pins: 1, 2

## Cap 0805 1nF (102) 10% 50V
designator C?, comment 1nF (102) 10% 50V
贴片电容; ComponentLink1Description: 供应商链接; ComponentLink1URL: http://www.szlcsc.com/product/details_52223.html; Package: 0805; Supplier: LC; SuppliersPartNumber: C51210
footprint 0805_C
pins: 1, 2

## Cap 0805 1uF (105) 10% 50V
designator C?, comment 1uF (105) 10% 50V
贴片电容; ComponentLink1Description: 供应商链接; ComponentLink1URL: http://www.szlcsc.com/product/details_29074.html; Package: 0805; Supplier: LC; SuppliersPartNumber: C28323
footprint 0805_C
pins: 1, 2

## Cap 0805 2.0pF (2R0) 0.25pF 50V
designator C?, comment 2.0pF (2R0) 0.25pF 50V
贴片电容; ComponentLink1Description: 供应商链接; ComponentLink1URL: http://www.szlcsc.com/product/details_2152.html; Package: 0805; Supplier: LC; SuppliersPartNumber: C1800
footprint 0805_C
pins: 1, 2

## Cap 0805 2.2nF (222) 5% 50V
designator C?, comment 2.2nF (222) 5% 50V
贴片电容; ComponentLink1Description: 供应商链接; ComponentLink1URL: http://www.szlcsc.com/product/details_29010.html; Package: 0805; Supplier: LC; SuppliersPartNumber: C28260
footprint 0805_C
pins: 1, 2

## Cap 0805 2.2uF (225) 20% 50V
designator C?, comment 2.2uF (225) 20% 50V
贴片电容; ComponentLink1Description: 供应商链接; ComponentLink1URL: http://www.szlcsc.com/product/details_50225.html; Package: 0805; Supplier: LC; SuppliersPartNumber: C49217
footprint 0805_C
pins: 1, 2

## Cap 0805 2.7pF (2R7) 0.25pF 50V
designator C?, comment 2.7pF (2R7) 0.25pF 50V
贴片电容; ComponentLink1Description: 供应商链接; ComponentLink1URL: http://www.szlcsc.com/product/details_2155.html; Package: 0805; Supplier: LC; SuppliersPartNumber: C1803
footprint 0805_C
pins: 1, 2

## Cap 0805 3.3nF (332) 10% 50V
designator C?, comment 3.3nF (332) 10% 50V
贴片电容; ComponentLink1Description: 供应商链接; ComponentLink1URL: http://www.szlcsc.com/product/details_54191.html; Package: 0805; Supplier: LC; SuppliersPartNumber: C53175
footprint 0805_C
pins: 1, 2

## Cap 0805 4.7nF (472) 10% 50V
designator C?, comment 4.7nF (472) 10% 50V
贴片电容; ComponentLink1Description: 供应商链接; ComponentLink1URL: http://www.szlcsc.com/product/details_2096.html; Package: 0805; Supplier: LC; SuppliersPartNumber: C1744
footprint 0805_C
pins: 1, 2

## Cap 0805 4.7pF (4R7) 0.25pF 50V
designator C?, comment 4.7pF (4R7) 0.25pF 50V
贴片电容; ComponentLink1Description: 供应商链接; ComponentLink1URL: http://www.szlcsc.com/product/details_2172.html; Package: 0805; Supplier: LC; SuppliersPartNumber: C1820
footprint 0805_C
pins: 1, 2

## Cap 0805 4.7uF (475) 10% 25V
designator C?, comment 4.7uF (475) 10% 25V
贴片电容; ComponentLink1Description: 供应商链接; ComponentLink1URL: http://www.szlcsc.com/product/details_2131.html; Package: 0805; Supplier: LC; SuppliersPartNumber: C1779
footprint 0805_C
pins: 1, 2

## Cap 0805 6.8nF (682) 10% 50V
designator C?, comment 6.8nF (682) 10% 50V
贴片电容; ComponentLink1Description: 供应商链接; ComponentLink1URL: http://www.szlcsc.com/product/details_2107.html; Package: 0805; Supplier: LC; SuppliersPartNumber: C1755
footprint 0805_C
pins: 1, 2

## Cap 0805 6.8pF (6R8) 0.25pF 50V
designator C?, comment 6.8pF (6R8) 0.25pF 50V
贴片电容; ComponentLink1Description: 供应商链接; ComponentLink1URL: http://www.szlcsc.com/product/details_2184.html; Package: 0805; Supplier: LC; SuppliersPartNumber: C1832
footprint 0805_C
pins: 1, 2

## Cap 0805 6pF (6R0) 0.25pF 50V
designator C?, comment 6pF (6R0) 0.25pF 50V
贴片电容; ComponentLink1Description: 供应商链接; ComponentLink1URL: http://www.szlcsc.com/product/details_68656.html; Package: 0805; Supplier: LC; SuppliersPartNumber: C67560
footprint 0805_C
pins: 1, 2

## Cap 0805 10nF (103) 10% 50V
designator C?, comment 10nF (103) 10% 50V
贴片电容; ComponentLink1Description: 供应商链接; ComponentLink1URL: http://www.szlcsc.com/product/details_2062.html; Package: 0805; Supplier: LC; SuppliersPartNumber: C1710
footprint 0805_C
pins: 1, 2

## Cap 0805 10pF (100) 5% 50V
designator C?, comment 10pF (100) 5% 50V
贴片电容; ComponentLink1Description: 供应商链接; ComponentLink1URL: http://www.szlcsc.com/product/details_2137.html; Package: 0805; Supplier: LC; SuppliersPartNumber: C1785
footprint 0805_C
pins: 1, 2

## Cap 0805 10uF (106) 10% 25V
designator C?, comment 10uF (106) 10% 25V
贴片电容; ComponentLink1Description: 供应商链接; ComponentLink1URL: http://www.szlcsc.com/product/details_16532.html; Package: 0805; Supplier: LC; SuppliersPartNumber: C15850
footprint 0805_C
pins: 1, 2

## Cap 0805 12pF (120) 5% 50V
designator C?, comment 12pF (120) 5% 50V
贴片电容; ComponentLink1Description: 供应商链接; ComponentLink1URL: http://www.szlcsc.com/product/details_2144.html; Package: 0805; Supplier: LC; SuppliersPartNumber: C1792
footprint 0805_C
pins: 1, 2

## Cap 0805 15pF (150) 5% 50V
designator C?, comment 15pF (150) 5% 50V
贴片电容; ComponentLink1Description: 供应商链接; ComponentLink1URL: http://www.szlcsc.com/product/details_2146.html; Package: 0805; Supplier: LC; SuppliersPartNumber: C1794
footprint 0805_C
pins: 1, 2

## Cap 0805 18pF (180) 5% 50V
designator C?, comment 18pF (180) 5% 50V
贴片电容; ComponentLink1Description: 供应商链接; ComponentLink1URL: http://www.szlcsc.com/product/details_2149.html; Package: 0805; Supplier: LC; SuppliersPartNumber: C1797
footprint 0805_C
pins: 1, 2

## Cap 0805 20pF (200) 5% 50V
designator C?, comment 20pF (200) 5% 50V
贴片电容; ComponentLink1Description: 供应商链接; ComponentLink1URL: http://www.szlcsc.com/product/details_2150.html; Package: 0805; Supplier: LC; SuppliersPartNumber: C1798
footprint 0805_C
pins: 1, 2

## Cap 0805 22nF (223) 10% 50V
designator C?, comment 22nF (223) 10% 50V
贴片电容; ComponentLink1Description: 供应商链接; ComponentLink1URL: http://www.szlcsc.com/product/details_2081.html; Package: 0805; Supplier: LC; SuppliersPartNumber: C1729
footprint 0805_C
pins: 1, 2

## Cap 0805 22pF (220) 5% 50V
designator C?, comment 22pF (220) 5% 50V
贴片电容; ComponentLink1Description: 供应商链接; ComponentLink1URL: http://www.szlcsc.com/product/details_2156.html; Package: 0805; Supplier: LC; SuppliersPartNumber: C1804
footprint 0805_C
pins: 1, 2

## Cap 0805 22uF (226) 20% 25V
designator C?, comment 22uF (226) 20% 25V
贴片电容; ComponentLink1Description: 供应商链接; ComponentLink1URL: http://www.szlcsc.com/product/details_46786.html; Package: 0805; Supplier: LC; SuppliersPartNumber: C45783
footprint 0805_C
pins: 1, 2

## Cap 0805 27pF (270) 5% 50V
designator C?, comment 27pF (270) 5% 50V
贴片电容; ComponentLink1Description: 供应商链接; ComponentLink1URL: http://www.szlcsc.com/product/details_8509.html; Package: 0805; Supplier: LC; SuppliersPartNumber: C8031
footprint 0805_C
pins: 1, 2

## Cap 0805 30pF (300) 5% 50V
designator C?, comment 30pF (300) 5% 50V
贴片电容; ComponentLink1Description: 供应商链接; ComponentLink1URL: http://www.szlcsc.com/product/details_2161.html; Package: 0805; Supplier: LC; SuppliersPartNumber: C1809
footprint 0805_C
pins: 1, 2

## Cap 0805 33nF (333) 10% 50V
designator C?, comment 33nF (333) 10% 50V
贴片电容; ComponentLink1Description: 供应商链接; ComponentLink1URL: http://www.szlcsc.com/product/details_2091.html; Package: 0805; Supplier: LC; SuppliersPartNumber: C1739
footprint 0805_C
pins: 1, 2

## Cap 0805 33pF (330) 5% 50V
designator C?, comment 33pF (330) 5% 50V
贴片电容; ComponentLink1Description: 供应商链接; ComponentLink1URL: http://www.szlcsc.com/product/details_2166.html; Package: 0805; Supplier: LC; SuppliersPartNumber: C1814
footprint 0805_C
pins: 1, 2

## Cap 0805 47nF (473) 10% 50V
designator C?, comment 47nF (473) 10% 50V
贴片电容; ComponentLink1Description: 供应商链接; ComponentLink1URL: http://www.szlcsc.com/product/details_54150.html; Package: 0805; Supplier: LC; SuppliersPartNumber: C53134
footprint 0805_C
pins: 1, 2

## Cap 0805 47pF (470) 5% 50V
designator C?, comment 47pF (470) 5% 50V
贴片电容; ComponentLink1Description: 供应商链接; ComponentLink1URL: http://www.szlcsc.com/product/details_15529.html; Package: 0805; Supplier: LC; SuppliersPartNumber: C14857
footprint 0805_C
pins: 1, 2

## Cap 0805 56pF (560) 5% 50V
designator C?, comment 56pF (560) 5% 50V
贴片电容; ComponentLink1Description: 供应商链接; ComponentLink1URL: http://www.szlcsc.com/product/details_2180.html; Package: 0805; Supplier: LC; SuppliersPartNumber: C1828
footprint 0805_C
pins: 1, 2

## Cap 0805 68nF (683) 10% 50V
designator C?, comment 68nF (683) 10% 50V
贴片电容; ComponentLink1Description: 供应商链接; ComponentLink1URL: http://www.szlcsc.com/product/details_2108.html; Package: 0805; Supplier: LC; SuppliersPartNumber: C1756
footprint 0805_C
pins: 1, 2

## Cap 0805 68pF (680) 5% 50V
designator C?, comment 68pF (680) 5% 50V
贴片电容; ComponentLink1Description: 供应商链接; ComponentLink1URL: http://www.szlcsc.com/product/details_2186.html; Package: 0805; Supplier: LC; SuppliersPartNumber: C1834
footprint 0805_C
pins: 1, 2

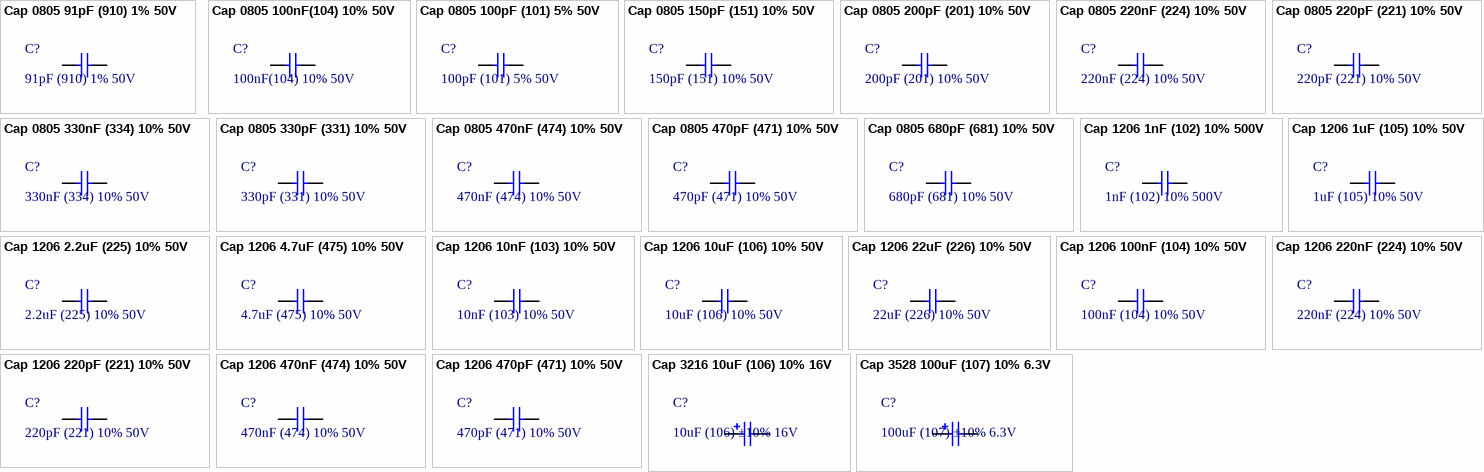
[diagram p4: symbols Cap 0805 91pF (910) 1% 50V to Cap 3528 100uF (107) 10% 6.3V]

## Cap 0805 91pF (910) 1% 50V
designator C?, comment 91pF (910) 1% 50V
贴片电容; ComponentLink1Description: 供应商链接; ComponentLink1URL: http://www.szlcsc.com/product/details_2186.html; Package: 0805; Supplier: LC; SuppliersPartNumber: C1834
footprint 0805_C
pins: 1, 2

## Cap 0805 100nF(104) 10% 50V
designator C?, comment 100nF(104) 10% 50V
贴片电容; ComponentLink1Description: 供应商链接; ComponentLink1URL: http://www.szlcsc.com/product/details_50686.html; Package: 0805; Supplier: LC; SuppliersPartNumber: C49678
footprint 0805_C
pins: 1, 2

## Cap 0805 100pF (101) 5% 50V
designator C?, comment 100pF (101) 5% 50V
贴片电容; ComponentLink1Description: 供应商链接; ComponentLink1URL: http://www.szlcsc.com/product/details_2142.html; Package: 0805; Supplier: LC; SuppliersPartNumber: C1790
footprint 0805_C
pins: 1, 2

## Cap 0805 150pF (151) 10% 50V
designator C?, comment 150pF (151) 10% 50V
贴片电容; ComponentLink1Description: 供应商链接; ComponentLink1URL: http://www.szlcsc.com/product/details_2068.html; Package: 0805; Supplier: LC; SuppliersPartNumber: C1716
footprint 0805_C
pins: 1, 2

## Cap 0805 200pF (201) 10% 50V
designator C?, comment 200pF (201) 10% 50V
贴片电容; ComponentLink1Description: 供应商链接; ComponentLink1URL: http://www.szlcsc.com/product/details_2076.html; Package: 0805; Supplier: LC; SuppliersPartNumber: C1724
footprint 0805_C
pins: 1, 2

## Cap 0805 220nF (224) 10% 50V
designator C?, comment 220nF (224) 10% 50V
贴片电容; ComponentLink1Description: 供应商链接; ComponentLink1URL: http://www.szlcsc.com/product/details_5810.html; Package: 0805; Supplier: LC; SuppliersPartNumber: C5378
footprint 0805_C
pins: 1, 2

## Cap 0805 220pF (221) 10% 50V
designator C?, comment 220pF (221) 10% 50V
贴片电容; ComponentLink1Description: 供应商链接; ComponentLink1URL: http://www.szlcsc.com/product/details_54188.html; Package: 0805; Supplier: LC; SuppliersPartNumber: C53172
footprint 0805_C
pins: 1, 2

## Cap 0805 330nF (334) 10% 50V
designator C?, comment 330nF (334) 10% 50V
贴片电容; ComponentLink1Description: 供应商链接; ComponentLink1URL: http://www.szlcsc.com/product/details_2092.html; Package: 0805; Supplier: LC; SuppliersPartNumber: C1740
footprint 0805_C
pins: 1, 2

## Cap 0805 330pF (331) 10% 50V
designator C?, comment 330pF (331) 10% 50V
贴片电容; ComponentLink1Description: 供应商链接; ComponentLink1URL: http://www.szlcsc.com/product/details_52220.html; Package: 0805; Supplier: LC; SuppliersPartNumber: C51207
footprint 0805_C
pins: 1, 2

## Cap 0805 470nF (474) 10% 50V
designator C?, comment 470nF (474) 10% 50V
贴片电容; ComponentLink1Description: 供应商链接; ComponentLink1URL: http://www.szlcsc.com/product/details_14623.html; Package: 0805; Supplier: LC; SuppliersPartNumber: C13967
footprint 0805_C
pins: 1, 2

## Cap 0805 470pF (471) 10% 50V
designator C?, comment 470pF (471) 10% 50V
贴片电容; ComponentLink1Description: 供应商链接; ComponentLink1URL: http://www.szlcsc.com/product/details_2095.html; Package: 0805; Supplier: LC; SuppliersPartNumber: C1743
footprint 0805_C
pins: 1, 2

## Cap 0805 680pF (681) 10% 50V
designator C?, comment 680pF (681) 10% 50V
贴片电容; ComponentLink1Description: 供应商链接; ComponentLink1URL: http://www.szlcsc.com/product/details_54166.html; Package: 0805; Supplier: LC; SuppliersPartNumber: C53150
footprint 0805_C
pins: 1, 2

## Cap 1206 1nF (102) 10% 500V
designator C?, comment 1nF (102) 10% 500V
贴片电容; ComponentLink1Description: 供应商链接; ComponentLink1URL: http://www.szlcsc.com/product/details_36187.html; Package: 1206; Supplier: LC; SuppliersPartNumber: C35216
footprint 1206_C
pins: 1, 2

## Cap 1206 1uF (105) 10% 50V
designator C?, comment 1uF (105) 10% 50V
贴片电容; ComponentLink1Description: 供应商链接; ComponentLink1URL: http://www.szlcsc.com/product/details_2200.html; Package: 1206; Supplier: LC; SuppliersPartNumber: C1848
footprint 1206_C
pins: 1, 2

## Cap 1206 2.2uF (225) 10% 50V
designator C?, comment 2.2uF (225) 10% 50V
贴片电容; ComponentLink1Description: 供应商链接; ComponentLink1URL: http://www.szlcsc.com/product/details_13292.html; Package: 1206; Supplier: LC; SuppliersPartNumber: C12656
footprint 1206_C
pins: 1, 2

## Cap 1206 4.7uF (475) 10% 50V
designator C?, comment 4.7uF (475) 10% 50V
贴片电容; ComponentLink1Description: 供应商链接; ComponentLink1URL: http://www.szlcsc.com/product/details_30577.html; Package: 1206; Supplier: LC; SuppliersPartNumber: C29823
footprint 1206_C
pins: 1, 2

## Cap 1206 10nF (103) 10% 50V
designator C?, comment 10nF (103) 10% 50V
贴片电容; ComponentLink1Description: 供应商链接; ComponentLink1URL: http://www.szlcsc.com/product/details_2198.html; Package: 1206; Supplier: LC; SuppliersPartNumber: C1846
footprint 1206_C
pins: 1, 2

## Cap 1206 10uF (106) 10% 50V
designator C?, comment 10uF (106) 10% 50V
贴片电容; ComponentLink1Description: 供应商链接; ComponentLink1URL: http://www.szlcsc.com/product/details_14236.html; Package: 1206; Supplier: LC; SuppliersPartNumber: C13585
footprint 1206_C
pins: 1, 2

## Cap 1206 22uF (226) 10% 50V
designator C?, comment 22uF (226) 10% 50V
贴片电容; ComponentLink1Description: 供应商链接; ComponentLink1URL: http://www.szlcsc.com/product/details_14236.html; Package: 1206; Supplier: LC; SuppliersPartNumber: C13585
footprint 1206_C
pins: 1, 2

## Cap 1206 100nF (104) 10% 50V
designator C?, comment 100nF (104) 10% 50V
贴片电容; ComponentLink1Description: 供应商链接; ComponentLink1URL: http://www.szlcsc.com/product/details_25237.html; Package: 1206; Supplier: LC; SuppliersPartNumber: C24497
footprint 1206_C
pins: 1, 2

## Cap 1206 220nF (224) 10% 50V
designator C?, comment 220nF (224) 10% 50V
贴片电容; ComponentLink1Description: 供应商链接; ComponentLink1URL: http://www.szlcsc.com/product/details_2209.html; Package: 1206; Supplier: LC; SuppliersPartNumber: C1857
footprint 1206_C
pins: 1, 2

## Cap 1206 220pF (221) 10% 50V
designator C?, comment 220pF (221) 10% 50V
贴片电容; ComponentLink1Description: 供应商链接; ComponentLink1URL: http://www.szlcsc.com/product/details_2206.html; Package: 1206; Supplier: LC; SuppliersPartNumber: C1854
footprint 1206_C
pins: 1, 2

## Cap 1206 470nF (474) 10% 50V
designator C?, comment 470nF (474) 10% 50V
贴片电容; ComponentLink1Description: 供应商链接; ComponentLink1URL: http://www.szlcsc.com/product/details_2223.html; Package: 1206; Supplier: LC; SuppliersPartNumber: C1871
footprint 1206_C
pins: 1, 2

## Cap 1206 470pF (471) 10% 50V
designator C?, comment 470pF (471) 10% 50V
贴片电容; ComponentLink1Description: 供应商链接; ComponentLink1URL: http://www.szlcsc.com/product/details_2220.html; Package: 1206; Supplier: LC; SuppliersPartNumber: C1868
footprint 1206_C
pins: 1, 2

## Cap 3216 10uF (106) 10% 16V
designator C?, comment 10uF (106) ±10% 16V
钽电容; ComponentLink1Description: 供应商链接; ComponentLink1URL: http://www.szlcsc.com/product/details_7643.html; Package: 3216; Supplier: LC; SuppliersPartNumber: C7171
footprint CAP TAN A3216
pins: 1, 2

## Cap 3528 100uF (107) 10% 6.3V
designator C?, comment 100uF (107) ±10% 6.3V
钽电容; ComponentLink1Description: 供应商链接; ComponentLink1URL: http://www.szlcsc.com/product/details_16815.html; Package: 3528; Supplier: LC; SuppliersPartNumber: C16133
footprint CAP TAN B3528
pins: 1, 2